# Altium schematic symbol library Amplifier_Operational.SchLib: 414 symbols (part 3 of 5)
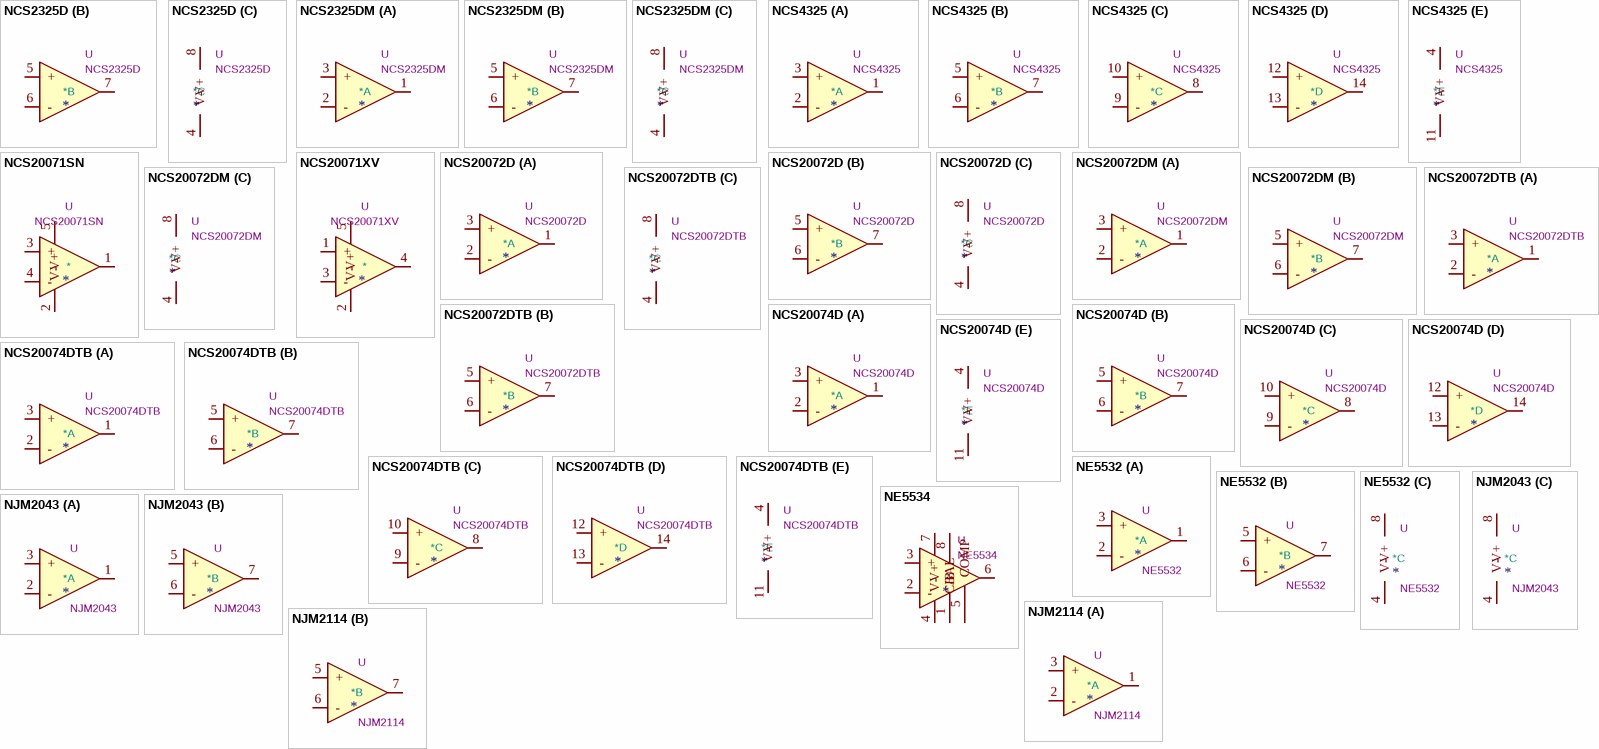
[diagram p25: symbols NCS2325D to NJM2114]

## NCS20071SN
designator *  value NCS20071SN  Reference: U
Single, 2.8V/µs, Rail-to-Rail Output, TSOP-5; ki_keywords: OpAmp Rail-to-rail Output Single vfa; ki_fp_filters: TSOP*1.65x3.05mm*P0.95mm*; Footprint: Package_SO:TSOP-5_1.65x3.05mm_P0.95mm; Datasheet: https://www.onsemi.com/pub/Collateral/NCS20071-D.PDF; Description_: Single, 2.8V/µs, Rail-to-Rail Output, TSOP-5
pins: 1, 2 V-, 3 +, 4 -, 5 V+

## NCS20071XV
designator *  value NCS20071XV  Reference: U
Single, 2.8V/µs, Rail-to-Rail Output, SOT-553; ki_keywords: OpAmp Rail-to-rail Output Single vfa; ki_fp_filters: SOT?553*; Footprint: Package_TO_SOT_SMD:SOT-553; Datasheet: https://www.onsemi.com/pub/Collateral/NCS20071-D.PDF; Description_: Single, 2.8V/µs, Rail-to-Rail Output, SOT-553
pins: 1 +, 2 V-, 3 -, 4, 5 V+

## NCS20072D
designator *  value NCS20072D  Reference: U
Dual, 2.8V/µs, Rail-to-Rail Output, SOIC-8; ki_keywords: dual rail-to-rail output opamp vfa; ki_fp_filters: SOIC*3.9x4.9mm*P1.27mm*; Footprint: Package_SO:SOIC-8_3.9x4.9mm_P1.27mm; Datasheet: https://www.onsemi.com/pub/Collateral/NCS20071-D.PDF; Description_: Dual, 2.8V/µs, Rail-to-Rail Output, SOIC-8
part A pins: 1, 2 -, 3 +
part B pins: 5 +, 6 -, 7
part C pins: 4 V-, 8 V+

## NCS20072DM
designator *  value NCS20072DM  Reference: U
Dual, 2.8V/µs, Rail-to-Rail Output, MSOP-8; ki_keywords: dual rail-to-rail output opamp vfa; ki_fp_filters: MSOP*3x3mm*P0.65mm*; Footprint: Package_SO:MSOP-8_3x3mm_P0.65mm; Datasheet: https://www.onsemi.com/pub/Collateral/NCS20071-D.PDF; Description_: Dual, 2.8V/µs, Rail-to-Rail Output, MSOP-8
part A pins: 1, 2 -, 3 +
part B pins: 5 +, 6 -, 7
part C pins: 4 V-, 8 V+

## NCS20072DTB
designator *  value NCS20072DTB  Reference: U
Dual, 2.8V/µs, Rail-to-Rail Output, TSSOP-8; ki_keywords: dual rail-to-rail output opamp vfa; ki_fp_filters: TSSOP*4.4x3mm*P0.65mm*; Footprint: Package_SO:TSSOP-8_4.4x3mm_P0.65mm; Datasheet: https://www.onsemi.com/pub/Collateral/NCS20071-D.PDF; Description_: Dual, 2.8V/µs, Rail-to-Rail Output, TSSOP-8
part A pins: 1, 2 -, 3 +
part B pins: 5 +, 6 -, 7
part C pins: 4 V-, 8 V+

## NCS20074D
designator *  value NCS20074D  Reference: U
Quad, 2.8V/µs, Rail-to-Rail Output, SOIC-14; ki_keywords: quad rail-to-rail output opamp vfa; ki_fp_filters: SOIC*3.9x8.7mm*P1.27mm*; Footprint: Package_SO:SOIC-14_3.9x8.7mm_P1.27mm; Datasheet: https://www.onsemi.com/pub/Collateral/NCS20071-D.PDF; Description_: Quad, 2.8V/µs, Rail-to-Rail Output, SOIC-14
part A pins: 1, 2 -, 3 +
part B pins: 5 +, 6 -, 7
part C pins: 8, 9 -, 10 +
part D pins: 12 +, 13 -, 14
part E pins: 4 V+, 11 V-

## NCS20074DTB
designator *  value NCS20074DTB  Reference: U
Quad, 2.8V/µs, Rail-to-Rail Output, TSSOP-14; ki_keywords: quad rail-to-rail output opamp vfa; ki_fp_filters: TSSOP*4.4x5mm*P0.65mm*; Footprint: Package_SO:TSSOP-14_4.4x5mm_P0.65mm; Datasheet: https://www.onsemi.com/pub/Collateral/NCS20071-D.PDF; Description_: Quad, 2.8V/µs, Rail-to-Rail Output, TSSOP-14
part A pins: 1, 2 -, 3 +
part B pins: 5 +, 6 -, 7
part C pins: 8, 9 -, 10 +
part D pins: 12 +, 13 -, 14
part E pins: 4 V+, 11 V-

## NE5532
designator *  value NE5532  Reference: U
Dual Low-Noise Operational Amplifiers, DIP-8/SOIC-8; ki_keywords: dual opamp; ki_fp_filters: SOIC*3.9x4.9mm*P1.27mm* DIP*W7.62mm* TO*99* OnSemi*Micro8* TSSOP*3x3mm*P0.65mm* TSSOP*4.4x3mm*P0.65mm* MSOP*3x3mm*P0.65mm* SSOP*3.9x4.9mm*P0.635mm* LFCSP*2x2mm*P0.5mm* *SIP* SOIC*5.3x6.2mm*P1.27mm*; Datasheet: http://www.ti.com/lit/ds/symlink/ne5532.pdf; Description_: Dual Low-Noise Operational Amplifiers, DIP-8/SOIC-8
part A pins: 1, 2 -, 3 +
part B pins: 5 +, 6 -, 7
part C pins: 4 V-, 8 V+

## NE5534
designator *  value NE5534  Reference: U
Single Low-Noise Operational Amplifiers, DIP-8/SOIC-8; ki_keywords: single opamp; ki_fp_filters: DIP*W7.62mm* SOIC*3.9x4.9mm*P1.27mm* TO?5*; Datasheet: http://www.ti.com/lit/ds/symlink/ne5534.pdf; Description_: Single Low-Noise Operational Amplifiers, DIP-8/SOIC-8
pins: 1 BAL, 2 -, 3 +, 4 V-, 5 COMP, 6, 7 V+, 8 C/B

## NJM2043
designator *  value NJM2043  Reference: U
Dual Low Noise Pre-Amplifier, DIP-8/DMP-8/SIP-8; ki_keywords: dual opamp; ki_fp_filters: SOIC*3.9x4.9mm*P1.27mm* DIP*W7.62mm* TO*99* OnSemi*Micro8* TSSOP*3x3mm*P0.65mm* TSSOP*4.4x3mm*P0.65mm* MSOP*3x3mm*P0.65mm* SSOP*3.9x4.9mm*P0.635mm* LFCSP*2x2mm*P0.5mm* *SIP* SOIC*5.3x6.2mm*P1.27mm*; Datasheet: http://www.njr.com/semicon/PDF/NJM2043_E.pdf; Description_: Dual Low Noise Pre-Amplifier, DIP-8/DMP-8/SIP-8
part A pins: 1, 2 -, 3 +
part B pins: 5 +, 6 -, 7
part C pins: 4 V-, 8 V+

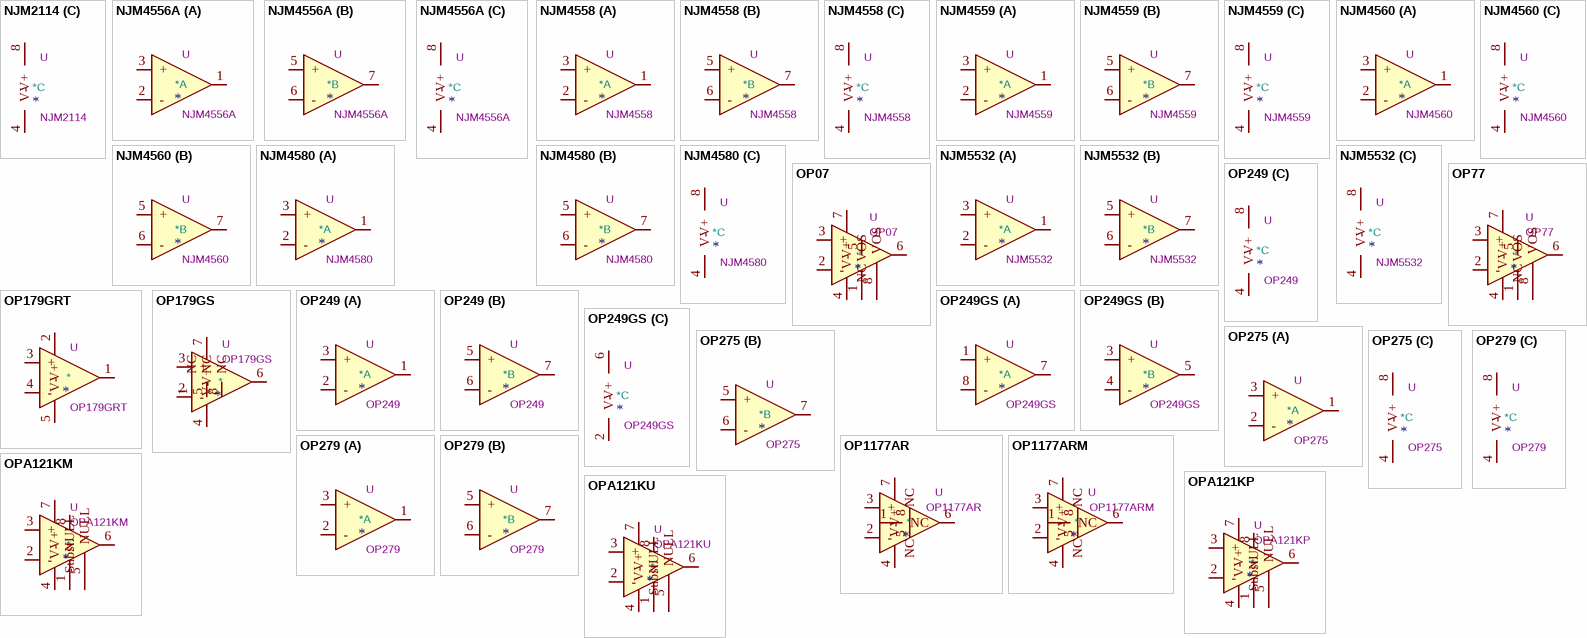
[diagram p12: symbols NJM2114 to OPA121KU]

## NJM2114
designator *  value NJM2114  Reference: U
Dual High Performance Low Noise Operational Amplifier, DIP-8/DMP-8/SIP-8; ki_keywords: dual opamp; ki_fp_filters: SOIC*3.9x4.9mm*P1.27mm* DIP*W7.62mm* TO*99* OnSemi*Micro8* TSSOP*3x3mm*P0.65mm* TSSOP*4.4x3mm*P0.65mm* MSOP*3x3mm*P0.65mm* SSOP*3.9x4.9mm*P0.635mm* LFCSP*2x2mm*P0.5mm* *SIP* SOIC*5.3x6.2mm*P1.27mm*; Datasheet: http://www.njr.com/semicon/PDF/NJM2114_E.pdf; Description_: Dual High Performance Low Noise Operational Amplifier, DIP-8/DMP-8/SIP-8
part A pins: 1, 2 -, 3 +
part B pins: 5 +, 6 -, 7
part C pins: 4 V-, 8 V+

## NJM4556A
designator *  value NJM4556A  Reference: U
Dual High Current Operational Amplifier, DIP-8/DMP-8/SIP-8/SSOP-8; ki_keywords: dual opamp; ki_fp_filters: SOIC*3.9x4.9mm*P1.27mm* DIP*W7.62mm* TO*99* OnSemi*Micro8* TSSOP*3x3mm*P0.65mm* TSSOP*4.4x3mm*P0.65mm* MSOP*3x3mm*P0.65mm* SSOP*3.9x4.9mm*P0.635mm* LFCSP*2x2mm*P0.5mm* *SIP* SOIC*5.3x6.2mm*P1.27mm*; Datasheet: http://www.njr.com/semicon/PDF/NJM4556A_E.pdf; Description_: Dual High Current Operational Amplifier, DIP-8/DMP-8/SIP-8/SSOP-8
part A pins: 1, 2 -, 3 +
part B pins: 5 +, 6 -, 7
part C pins: 4 V-, 8 V+

## NJM4558
designator *  value NJM4558  Reference: U
Dual Operational Amplifier, DIP-8/DMP-8/SIP-8/SOP-8/SSOP-8; ki_keywords: dual opamp; ki_fp_filters: SOIC*3.9x4.9mm*P1.27mm* DIP*W7.62mm* TO*99* OnSemi*Micro8* TSSOP*3x3mm*P0.65mm* TSSOP*4.4x3mm*P0.65mm* MSOP*3x3mm*P0.65mm* SSOP*3.9x4.9mm*P0.635mm* LFCSP*2x2mm*P0.5mm* *SIP* SOIC*5.3x6.2mm*P1.27mm*; Datasheet: http://www.njr.com/semicon/PDF/NJM4558_NJM4559_E.pdf; Description_: Dual Operational Amplifier, DIP-8/DMP-8/SIP-8/SOP-8/SSOP-8
part A pins: 1, 2 -, 3 +
part B pins: 5 +, 6 -, 7
part C pins: 4 V-, 8 V+

## NJM4559
designator *  value NJM4559  Reference: U
Dual Operational Amplifier, DIP-8/DMP-8/SIP-8/SOP-8/SSOP-8; ki_keywords: dual opamp; ki_fp_filters: SOIC*3.9x4.9mm*P1.27mm* DIP*W7.62mm* TO*99* OnSemi*Micro8* TSSOP*3x3mm*P0.65mm* TSSOP*4.4x3mm*P0.65mm* MSOP*3x3mm*P0.65mm* SSOP*3.9x4.9mm*P0.635mm* LFCSP*2x2mm*P0.5mm* *SIP* SOIC*5.3x6.2mm*P1.27mm*; Datasheet: http://www.njr.com/semicon/PDF/NJM4558_NJM4559_E.pdf; Description_: Dual Operational Amplifier, DIP-8/DMP-8/SIP-8/SOP-8/SSOP-8
part A pins: 1, 2 -, 3 +
part B pins: 5 +, 6 -, 7
part C pins: 4 V-, 8 V+

## NJM4560
designator *  value NJM4560  Reference: U
Dual Operational Amplifier, DIP-8/DMP-8/SIP-8/SOP-8; ki_keywords: dual opamp; ki_fp_filters: SOIC*3.9x4.9mm*P1.27mm* DIP*W7.62mm* TO*99* OnSemi*Micro8* TSSOP*3x3mm*P0.65mm* TSSOP*4.4x3mm*P0.65mm* MSOP*3x3mm*P0.65mm* SSOP*3.9x4.9mm*P0.635mm* LFCSP*2x2mm*P0.5mm* *SIP* SOIC*5.3x6.2mm*P1.27mm*; Datasheet: http://www.njr.com/semicon/PDF/NJM4560_E.pdf; Description_: Dual Operational Amplifier, DIP-8/DMP-8/SIP-8/SOP-8
part A pins: 1, 2 -, 3 +
part B pins: 5 +, 6 -, 7
part C pins: 4 V-, 8 V+

## NJM4580
designator *  value NJM4580  Reference: U
Dual Operational Amplifier, DIP-8/DMP-8/SIP-8/MSOP-8/SOP-8/SSOP-8; ki_keywords: dual opamp; ki_fp_filters: SOIC*3.9x4.9mm*P1.27mm* DIP*W7.62mm* TO*99* OnSemi*Micro8* TSSOP*3x3mm*P0.65mm* TSSOP*4.4x3mm*P0.65mm* MSOP*3x3mm*P0.65mm* SSOP*3.9x4.9mm*P0.635mm* LFCSP*2x2mm*P0.5mm* *SIP* SOIC*5.3x6.2mm*P1.27mm*; Datasheet: http://www.njr.com/semicon/PDF/NJM4580_E.pdf; Description_: Dual Operational Amplifier, DIP-8/DMP-8/SIP-8/MSOP-8/SOP-8/SSOP-8
part A pins: 1, 2 -, 3 +
part B pins: 5 +, 6 -, 7
part C pins: 4 V-, 8 V+

## NJM5532
designator *  value NJM5532  Reference: U
Dual Low-Noise Operational Amplifier, DIP-8/DMP-8/SIP-8; ki_keywords: dual opamp; ki_fp_filters: SOIC*3.9x4.9mm*P1.27mm* DIP*W7.62mm* TO*99* OnSemi*Micro8* TSSOP*3x3mm*P0.65mm* TSSOP*4.4x3mm*P0.65mm* MSOP*3x3mm*P0.65mm* SSOP*3.9x4.9mm*P0.635mm* LFCSP*2x2mm*P0.5mm* *SIP* SOIC*5.3x6.2mm*P1.27mm*; Datasheet: http://www.njr.com/semicon/PDF/NJM5532_E.pdf; Description_: Dual Low-Noise Operational Amplifier, DIP-8/DMP-8/SIP-8
part A pins: 1, 2 -, 3 +
part B pins: 5 +, 6 -, 7
part C pins: 4 V-, 8 V+

## OP07
designator *  value OP07  Reference: U
Single Ultra-Low Offset Voltage Operational Amplifier, DIP-8/SOIC-8; ki_keywords: single opamp; ki_fp_filters: DIP*W7.62mm* SOIC*3.9x4.9mm*P1.27mm* TO*99*; Datasheet: https://www.analog.com/media/en/technical-documentation/data-sheets/OP07.pdf; Description_: Single Ultra-Low Offset Voltage Operational Amplifier, DIP-8/SOIC-8
pins: 1 VOS, 2 -, 3 +, 4 V-, 5 NC, 6, 7 V+, 8 VOS

## OP77
designator *  value OP77  Reference: U
Next Generation OP07 Ultralow Offset Voltage Operational Amplifier, DIP-8/TO-99-8; ki_keywords: single opamp; ki_fp_filters: DIP*W7.62mm* SOIC*3.9x4.9mm*P1.27mm* TO*99*; Datasheet: https://www.analog.com/media/en/technical-documentation/data-sheets/OP77.pdf; Description_: Next Generation OP07 Ultralow Offset Voltage Operational Amplifier, DIP-8/TO-99-8
pins: 1 VOS, 2 -, 3 +, 4 V-, 5 NC, 6, 7 V+, 8 VOS

## OP179GRT
designator *  value OP179GRT  Reference: U
Single Rail-to-Rail High Output Current Operational Amplifiers, SOT-23-5; ki_keywords: single opamp; ki_fp_filters: SOT?23*; Footprint: Package_TO_SOT_SMD:SOT-23-5; Datasheet: https://www.analog.com/media/en/technical-documentation/data-sheets/OP179_279.pdf; Description_: Single Rail-to-Rail High Output Current Operational Amplifiers, SOT-23-5
pins: 1, 2 V+, 3 +, 4 -, 5 V-

## OP179GS
designator *  value OP179GS  Reference: U
Single Rail-to-Rail High Output Current Operational Amplifiers, SOIC-8; ki_keywords: single opamp; ki_fp_filters: SOIC*3.9x4.9mm*P1.27mm*; Footprint: Package_SO:SOIC-8_3.9x4.9mm_P1.27mm; Datasheet: https://www.analog.com/media/en/technical-documentation/data-sheets/OP179_279.pdf; Description_: Single Rail-to-Rail High Output Current Operational Amplifiers, SOIC-8
pins: 1 NC, 2 -, 3 +, 4 V-, 5 NC, 6, 7 V+, 8 NC

## OP249
designator *  value OP249  Reference: U
Precision JFET, High Speed, Dual Operational Amplifier, DIP-8; ki_keywords: dual opamp; ki_fp_filters: SOIC*3.9x4.9mm*P1.27mm* DIP*W7.62mm* TO*99* OnSemi*Micro8* TSSOP*3x3mm*P0.65mm* TSSOP*4.4x3mm*P0.65mm* MSOP*3x3mm*P0.65mm* SSOP*3.9x4.9mm*P0.635mm* LFCSP*2x2mm*P0.5mm* *SIP* SOIC*5.3x6.2mm*P1.27mm*; Datasheet: https://www.analog.com/media/en/technical-documentation/data-sheets/OP249.pdf; Description_: Precision JFET, High Speed, Dual Operational Amplifier, DIP-8
part A pins: 1, 2 -, 3 +
part B pins: 5 +, 6 -, 7
part C pins: 4 V-, 8 V+

## OP249GS
designator *  value OP249GS  Reference: U
Precision JFET, High Speed, Dual Operational Amplifier, SOIC-8; ki_keywords: dual opamp; ki_fp_filters: SOIC*3.9x4.9mm*P1.27mm*; Footprint: Package_SO:SOIC-8_3.9x4.9mm_P1.27mm; Datasheet: https://www.analog.com/media/en/technical-documentation/data-sheets/OP249.pdf; Description_: Precision JFET, High Speed, Dual Operational Amplifier, SOIC-8
part A pins: 1 +, 7, 8 -
part B pins: 3 +, 4 -, 5
part C pins: 2 V-, 6 V+

## OP275
designator *  value OP275  Reference: U
Dual Bipolar/JFET, Audio Operational Amplifier, DIP-8/SOIC-8; ki_keywords: dual opamp; ki_fp_filters: SOIC*3.9x4.9mm*P1.27mm* DIP*W7.62mm* TO*99* OnSemi*Micro8* TSSOP*3x3mm*P0.65mm* TSSOP*4.4x3mm*P0.65mm* MSOP*3x3mm*P0.65mm* SSOP*3.9x4.9mm*P0.635mm* LFCSP*2x2mm*P0.5mm* *SIP* SOIC*5.3x6.2mm*P1.27mm*; Datasheet: https://www.analog.com/media/en/technical-documentation/data-sheets/OP275.pdf; Description_: Dual Bipolar/JFET, Audio Operational Amplifier, DIP-8/SOIC-8
part A pins: 1, 2 -, 3 +
part B pins: 5 +, 6 -, 7
part C pins: 4 V-, 8 V+

## OP279
designator *  value OP279  Reference: U
Dual Rail-to-Rail High Output Current Operational Amplifiers, SOIC-8/TSSOP-8; ki_keywords: dual opamp; ki_fp_filters: SOIC*3.9x4.9mm*P1.27mm* TSSOP*4.4x3mm*P0.65mm*; Datasheet: https://www.analog.com/media/en/technical-documentation/data-sheets/OP179_279.pdf; Description_: Dual Rail-to-Rail High Output Current Operational Amplifiers, SOIC-8/TSSOP-8
part A pins: 1, 2 -, 3 +
part B pins: 5 +, 6 -, 7
part C pins: 4 V-, 8 V+

## OP1177AR
designator *  value OP1177AR  Reference: U
Precision Low Noise, Low Input Bias Current Operational Amplifier, SOIC-8; ki_keywords: single operational amplifier; ki_fp_filters: SOIC*3.9x4.9mm*P1.27mm*; Footprint: Package_SO:SOIC-8_3.9x4.9mm_P1.27mm; Datasheet: https://www.analog.com/media/en/technical-documentation/data-sheets/OP1177_2177_4177.pdf; Description_: Precision Low Noise, Low Input Bias Current Operational Amplifier, SOIC-8
pins: 1 NC, 2 -, 3 +, 4 V-, 5 NC, 6, 7 V+, 8 NC

## OP1177ARM
designator *  value OP1177ARM  Reference: U
Precision Low Noise, Low Input Bias Current Operational Amplifier, MSOP-8; ki_keywords: single operational amplifier; ki_fp_filters: MSOP*3x3mm*P0.65mm*; Footprint: Package_SO:MSOP-8_3x3mm_P0.65mm; Datasheet: https://www.analog.com/media/en/technical-documentation/data-sheets/OP1177_2177_4177.pdf; Description_: Precision Low Noise, Low Input Bias Current Operational Amplifier, MSOP-8
pins: 1 NC, 2 -, 3 +, 4 V-, 5 NC, 6, 7 V+, 8 NC

## OPA121KM
designator *  value OPA121KM  Reference: U
Operational Amplifier, TO-99; ki_keywords: single opamp BURR-BROWN Texas Instruments; ki_fp_filters: *TO*99*; Footprint: Package_TO_SOT_THT:TO-99-8; Datasheet: https://www.alldatasheet.com/datasheet-pdf/pdf/56725/BURR-BROWN/OPA121.html; Description_: Operational Amplifier, TO-99
pins: 1 NULL, 2 -, 3 +, 4 V-, 5 NULL, 6, 7 V+, 8 Subst.

## OPA121KP
designator *  value OPA121KP  Reference: U
Operational Amplifier, DIP-8; ki_keywords: single opamp BURR-BROWN Texas Instruments; ki_fp_filters: DIP*W7.62mm*; Footprint: Package_DIP:DIP-8_W7.62mm; Datasheet: https://www.alldatasheet.com/datasheet-pdf/pdf/56725/BURR-BROWN/OPA121.html; Description_: Operational Amplifier, DIP-8
pins: 1 NULL, 2 -, 3 +, 4 V-, 5 NULL, 6, 7 V+, 8 Subst.

## OPA121KU
designator *  value OPA121KU  Reference: U
Operational Amplifier, SOIC-8; ki_keywords: single opamp BURR-BROWN Texas Instruments; ki_fp_filters: SOIC*3.9x4.9mm*P1.27mm*; Footprint: Package_SO:SOIC-8_3.9x4.9mm_P1.27mm; Datasheet: https://www.alldatasheet.com/datasheet-pdf/pdf/56725/BURR-BROWN/OPA121.html; Description_: Operational Amplifier, SOIC-8
pins: 1 NULL, 2 -, 3 +, 4 V-, 5 NULL, 6, 7 V+, 8 Subst.

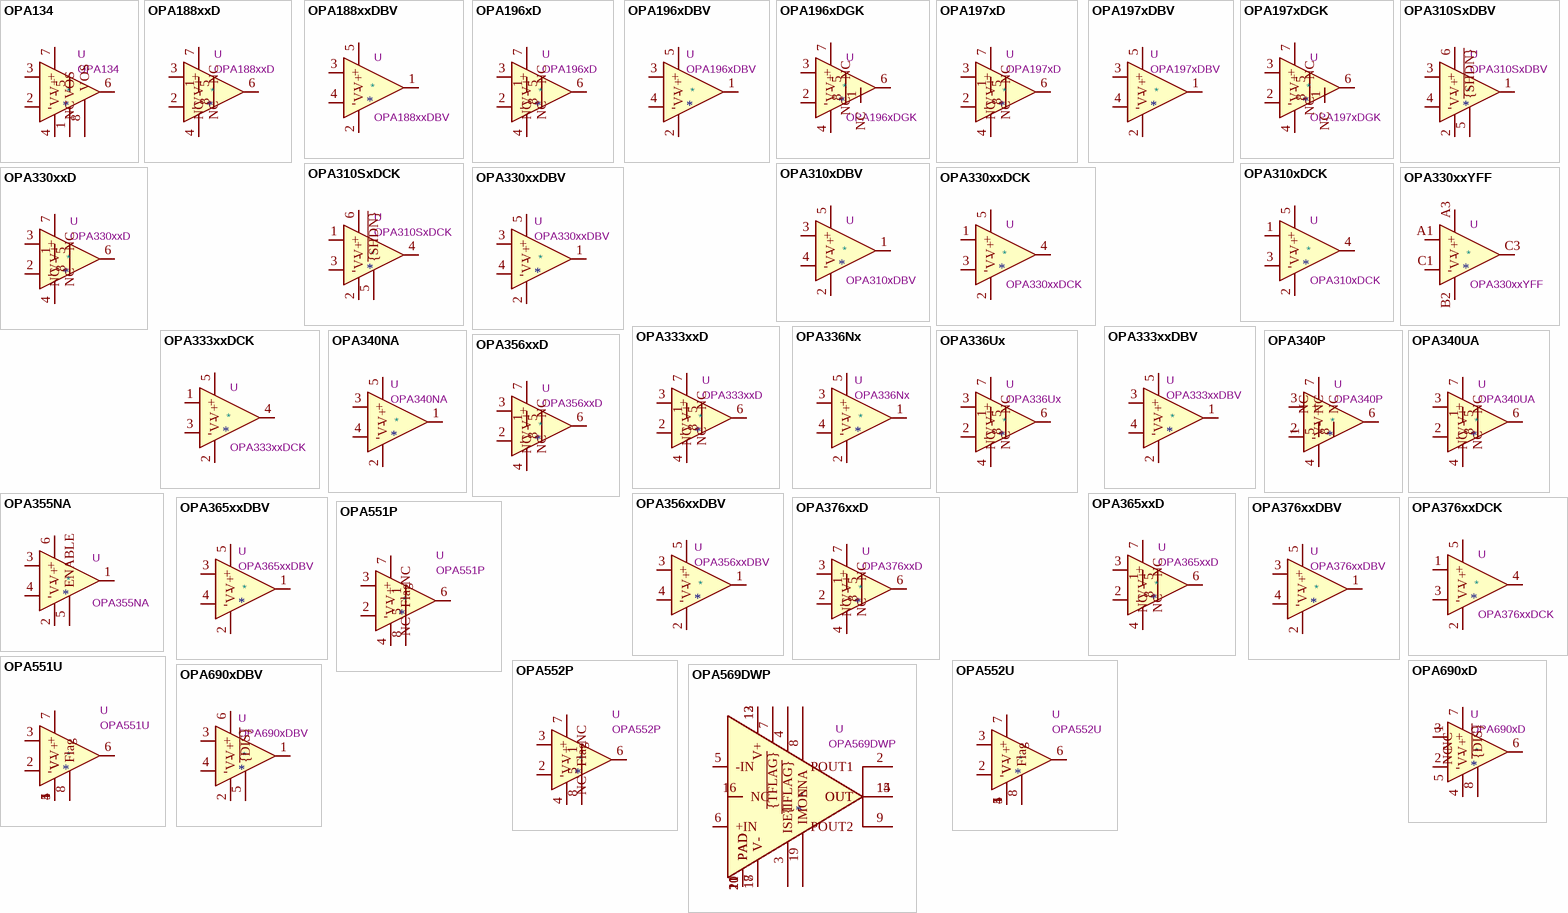
[diagram p13: symbols OPA134 to OPA690xDBV]

## OPA134
designator *  value OPA134  Reference: U
Single SoundPlus High Performance Audio Operational Amplifiers, DIP-8/SOIC-8; ki_keywords: single opamp; ki_fp_filters: DIP*W7.62mm* SOIC*3.9x4.9mm*P1.27mm* TO*99*; Datasheet: http://www.ti.com/lit/ds/symlink/opa134.pdf; Description_: Single SoundPlus High Performance Audio Operational Amplifiers, DIP-8/SOIC-8
pins: 1 VOS, 2 -, 3 +, 4 V-, 5 NC, 6, 7 V+, 8 VOS

## OPA188xxD
designator *  value OPA188xxD  Reference: U
Precision, Low-Noise, Rail-to-Rail Output, 36-V, Zero-Drift Operational Amplifier, SOIC-8; ki_keywords: single opamp zero-drift; ki_fp_filters: SOIC*3.9x4.9mm*P1.27mm*; Footprint: Package_SO:SOIC-8_3.9x4.9mm_P1.27mm; Datasheet: http://www.ti.com/lit/ds/symlink/opa188.pdf; Description_: Precision, Low-Noise, Rail-to-Rail Output, 36-V, Zero-Drift Operational Amplifier, SOIC-8
pins: 1 NC, 2 -, 3 +, 4 V-, 5 NC, 6, 7 V+, 8 NC

## OPA188xxDBV
designator *  value OPA188xxDBV  Reference: U
Zero-Drift, Precision, Low-Noise, Rail-to-Rail Output, 36-V Operational Amplifier, TSOT-23-5; ki_keywords: single opamp zero-drift; ki_fp_filters: TSOT*23*; Footprint: Package_TO_SOT_SMD:TSOT-23-5; Datasheet: http://www.ti.com/lit/ds/symlink/opa188.pdf; Description_: Zero-Drift, Precision, Low-Noise, Rail-to-Rail Output, 36-V Operational Amplifier, TSOT-23-5
pins: 1, 2 V-, 3 +, 4 -, 5 V+

## OPA196xD
designator *  value OPA196xD  Reference: U
Sing, Low-Power, Low Offset Voltage, Rail-to-Rail Operational Amplifier, SOIC-8; ki_keywords: single opamp; ki_fp_filters: SOIC*3.9x4.9mm*P1.27mm*; Footprint: Package_SO:SOIC-8_3.9x4.9mm_P1.27mm; Datasheet: http://www.ti.com/lit/ds/symlink/opa4196.pdf; Description_: Sing, Low-Power, Low Offset Voltage, Rail-to-Rail Operational Amplifier, SOIC-8
pins: 1 NC, 2 -, 3 +, 4 V-, 5 NC, 6, 7 V+, 8 NC

## OPA196xDBV
designator *  value OPA196xDBV  Reference: U
Single, Low-Power, Low Offset Voltage, Rail-to-Rail Operational Amplifier, SOT-23-5; ki_keywords: single opamp; ki_fp_filters: SOT?23*; Footprint: Package_TO_SOT_SMD:SOT-23-5; Datasheet: http://www.ti.com/lit/ds/symlink/opa4196.pdf; Description_: Single, Low-Power, Low Offset Voltage, Rail-to-Rail Operational Amplifier, SOT-23-5
pins: 1, 2 V-, 3 +, 4 -, 5 V+

## OPA196xDGK
designator *  value OPA196xDGK  Reference: U
Single, Low-Power, Low Offset Voltage, Rail-to-Rail Operational Amplifier, VSSOP-8; ki_keywords: single opamp rtor; ki_fp_filters: VSSOP*3x3mm*P0.65mm*; Footprint: Package_SO:VSSOP-8_3x3mm_P0.65mm; Datasheet: http://www.ti.com/lit/ds/symlink/opa4196.pdf; Description_: Single, Low-Power, Low Offset Voltage, Rail-to-Rail Operational Amplifier, VSSOP-8
pins: 1 NC, 2 -, 3 +, 4 V-, 5 NC, 6, 7 V+, 8 NC

## OPA197xD
designator *  value OPA197xD  Reference: U
Single 36V, Precision, Rail-to-Rail Input/Output, Low Offset Voltage, Operational Amplifier, SOIC-8; ki_keywords: single opamp rtor; ki_fp_filters: SOIC*3.9x4.9mm*P1.27mm*; Footprint: Package_SO:SOIC-8_3.9x4.9mm_P1.27mm; Datasheet: http://www.ti.com/lit/ds/symlink/opa197.pdf; Description_: Single 36V, Precision, Rail-to-Rail Input/Output, Low Offset Voltage, Operational Amplifier, SOIC-8
pins: 1 NC, 2 -, 3 +, 4 V-, 5 NC, 6, 7 V+, 8 NC

## OPA197xDBV
designator *  value OPA197xDBV  Reference: U
Single 36V, Precision, Rail-to-Rail Input/Output, Low Offset Voltage, Operational Amplifier, SOT-23; ki_keywords: single opamp rtor; ki_fp_filters: SOT?23*; Footprint: Package_TO_SOT_SMD:SOT-23-5; Datasheet: http://www.ti.com/lit/ds/symlink/opa197.pdf; Description_: Single 36V, Precision, Rail-to-Rail Input/Output, Low Offset Voltage, Operational Amplifier, SOT-23
pins: 1, 2 V-, 3 +, 4 -, 5 V+

## OPA197xDGK
designator *  value OPA197xDGK  Reference: U
Single 36V, Precision, Rail-to-Rail Input/Output, Low Offset Voltage, Operational Amplifier, VSSOP-8; ki_keywords: single opamp rtor; ki_fp_filters: VSSOP*3x3mm*P0.65mm*; Footprint: Package_SO:VSSOP-8_3x3mm_P0.65mm; Datasheet: http://www.ti.com/lit/ds/symlink/opa197.pdf; Description_: Single 36V, Precision, Rail-to-Rail Input/Output, Low Offset Voltage, Operational Amplifier, VSSOP-8
pins: 1 NC, 2 -, 3 +, 4 V-, 5 NC, 6, 7 V+, 8 NC

## OPA310SxDBV
designator *  value OPA310SxDBV  Reference: U
Single Rail-to-Rail Input/Output Operational Amplifier with Shutdown, 1.5..5.5V supply, 3MHz GBW, 250uV offset voltage, 150mA output current, SOT-23-6; ki_keywords: single opamp; ki_fp_filters: SOT?23*; Footprint: Package_TO_SOT_SMD:SOT-23-6; Datasheet: https://www.ti.com/lit/ds/symlink/opa310.pdf; Description_: Single Rail-to-Rail Input/Output Operational Amplifier with Shutdown, 1.5..5.5V supply, 3MHz GBW, 250uV offset voltage, 150mA output current, SOT-23-6
pins: 1, 2 V-, 3 +, 4 -, 5 ~{{SHDN}}, 6 V+

## OPA310SxDCK
designator *  value OPA310SxDCK  Reference: U
Single Rail-to-Rail Input/Output Operational Amplifier with Shutdown, 1.5..5.5V supply, 3MHz GBW, 250uV offset voltage, 150mA output current,  SC-70-6; ki_keywords: single opamp; ki_fp_filters: Texas*R*PDSO*G6*; Footprint: Package_TO_SOT_SMD:Texas_R-PDSO-G6; Datasheet: https://www.ti.com/lit/ds/symlink/opa310.pdf; Description_: Single Rail-to-Rail Input/Output Operational Amplifier with Shutdown, 1.5..5.5V supply, 3MHz GBW, 250uV offset voltage, 150mA output current,  SC-70-6
pins: 1 +, 2 V-, 3 -, 4, 5 ~{{SHDN}}, 6 V+

## OPA310xDBV
designator *  value OPA310xDBV  Reference: U
High output current, Rail-to-Rail Input/Output, 3MHz GBW, Operational Amplifiers, integrated RFI/EMI filter, 1.5V to 5.5V supply, SOT-23-5; ki_keywords: single opamp rrio; ki_fp_filters: SOT?23*; Footprint: Package_TO_SOT_SMD:SOT-23-5; Datasheet: https://www.ti.com/lit/ds/symlink/opa2310.pdf; Description_: High output current, Rail-to-Rail Input/Output, 3MHz GBW, Operational Amplifiers, integrated RFI/EMI filter, 1.5V to 5.5V supply, SOT-23-5
pins: 1, 2 V-, 3 +, 4 -, 5 V+

## OPA310xDCK
designator *  value OPA310xDCK  Reference: U
High output current, Rail-to-Rail Input/Output, 3MHz GBW, Operational Amplifiers, integrated RFI/EMI filter, 1.5V to 5.5V supply, SC-70-5; ki_keywords: single opamp rrio; ki_fp_filters: *SC*70*; Footprint: Package_TO_SOT_SMD:SOT-353_SC-70-5; Datasheet: https://www.ti.com/lit/ds/symlink/opa2310.pdf; Description_: High output current, Rail-to-Rail Input/Output, 3MHz GBW, Operational Amplifiers, integrated RFI/EMI filter, 1.5V to 5.5V supply, SC-70-5
pins: 1 +, 2 V-, 3 -, 4, 5 V+

## OPA330xxD
designator *  value OPA330xxD  Reference: U
50μV V OS, 0.25μV/°C, 35μA CMOS OPERATIONAL AMPLIFIERS, Zerø-Drift Series, SOIC; ki_keywords: single opamp; ki_fp_filters: SOIC*3.9x4.9mm*P1.27mm*; Footprint: Package_SO:SOIC-8_3.9x4.9mm_P1.27mm; Datasheet: http://www.ti.com/lit/ds/symlink/opa330.pdf; Description_: 50μV V OS, 0.25μV/°C, 35μA CMOS OPERATIONAL AMPLIFIERS, Zerø-Drift Series, SOIC
pins: 1 NC, 2 -, 3 +, 4 V-, 5 NC, 6, 7 V+, 8 NC

## OPA330xxDBV
designator *  value OPA330xxDBV  Reference: U
50μV V OS, 0.25μV/°C, 35μA CMOS OPERATIONAL AMPLIFIERS, Zerø-Drift Series, SOT; ki_keywords: single opamp; ki_fp_filters: SOT?23*; Footprint: Package_TO_SOT_SMD:SOT-23-5; Datasheet: http://www.ti.com/lit/ds/symlink/opa330.pdf; Description_: 50μV V OS, 0.25μV/°C, 35μA CMOS OPERATIONAL AMPLIFIERS, Zerø-Drift Series, SOT
pins: 1, 2 V-, 3 +, 4 -, 5 V+

## OPA330xxDCK
designator *  value OPA330xxDCK  Reference: U
50μV V OS, 0.25μV/°C, 35μA CMOS OPERATIONAL AMPLIFIERS, Zerø-Drift Series, SC70; ki_keywords: single opamp; ki_fp_filters: SOT?23* *SC*70*; Datasheet: http://www.ti.com/lit/ds/symlink/opa330.pdf; Description_: 50μV V OS, 0.25μV/°C, 35μA CMOS OPERATIONAL AMPLIFIERS, Zerø-Drift Series, SC70
pins: 1 +, 2 V-, 3 -, 4, 5 V+

## OPA330xxYFF
designator *  value OPA330xxYFF  Reference: U
50μV V OS, 0.25μV/°C, 35μA CMOS OPERATIONAL AMPLIFIERS, Zerø-Drift Series, DSBGA; ki_keywords: single opamp; ki_fp_filters: Texas*DSBGA*0.822x1.116mm*2x1x2*P0.4mm*; Footprint: Package_BGA:Texas_DSBGA-5_0.822x1.116mm_Layout2x1x2_P0.4mm; Datasheet: http://www.ti.com/lit/ds/symlink/opa330.pdf; Description_: 50μV V OS, 0.25μV/°C, 35μA CMOS OPERATIONAL AMPLIFIERS, Zerø-Drift Series, DSBGA
pins: A1 +, A3 V+, B2 V-, C1 -, C3

## OPA333xxD
designator *  value OPA333xxD  Reference: U
Single 1.8V, microPower, CMOS Operational Amplifiers, Zero-Drift Series, SOIC-8; ki_keywords: single opamp; ki_fp_filters: SOIC*3.9x4.9mm*P1.27mm*; Footprint: Package_SO:SOIC-8_3.9x4.9mm_P1.27mm; Datasheet: http://www.ti.com/lit/ds/symlink/opa333.pdf; Description_: Single 1.8V, microPower, CMOS Operational Amplifiers, Zero-Drift Series, SOIC-8
pins: 1 NC, 2 -, 3 +, 4 V-, 5 NC, 6, 7 V+, 8 NC

## OPA333xxDBV
designator *  value OPA333xxDBV  Reference: U
Single 1.8V, microPower, CMOS Operational Amplifiers, Zero-Drift Series, SOT-23-5; ki_keywords: single opamp; ki_fp_filters: SOT?23*; Footprint: Package_TO_SOT_SMD:SOT-23-5; Datasheet: http://www.ti.com/lit/ds/symlink/opa333.pdf; Description_: Single 1.8V, microPower, CMOS Operational Amplifiers, Zero-Drift Series, SOT-23-5
pins: 1, 2 V-, 3 +, 4 -, 5 V+

## OPA333xxDCK
designator *  value OPA333xxDCK  Reference: U
Single 1.8V, microPower, CMOS Operational Amplifiers, Zero-Drift Series, SC-70-5; ki_keywords: single opamp; ki_fp_filters: *SC*70*; Footprint: Package_TO_SOT_SMD:SOT-353_SC-70-5; Datasheet: http://www.ti.com/lit/ds/symlink/opa333.pdf; Description_: Single 1.8V, microPower, CMOS Operational Amplifiers, Zero-Drift Series, SC-70-5
pins: 1 +, 2 V-, 3 -, 4, 5 V+

## OPA336Nx
designator *  value OPA336Nx  Reference: U
100 KHz, microPower CMOS, Op Amps, SOT-23-5; ki_keywords: single opamp rail; ki_fp_filters: SOT?23*; Footprint: Package_TO_SOT_SMD:SOT-23-5; Datasheet: https://www.ti.com/lit/ds/symlink/opa2336.pdf; Description_: 100 KHz, microPower CMOS, Op Amps, SOT-23-5
pins: 1, 2 V-, 3 +, 4 -, 5 V+

## OPA336Ux
designator *  value OPA336Ux  Reference: U
100 KHz, microPower CMOS, Op Amps, SO-8; ki_keywords: single opamp rail; ki_fp_filters: SO*3.9x4.9mm*P1.27mm*; Footprint: Package_SO:SO-8_3.9x4.9mm_P1.27mm; Datasheet: https://www.ti.com/lit/ds/symlink/opa2336.pdf; Description_: 100 KHz, microPower CMOS, Op Amps, SO-8
pins: 1 NC, 2 -, 3 +, 4 V-, 5 NC, 6, 7 V+, 8 NC

## OPA340NA
designator *  value OPA340NA  Reference: U
Single Single-Supply, Rail-to-Rail Operational Amplifier, MicroAmplifier Series, SOT-23-5; ki_keywords: single opamp; ki_fp_filters: SOT?23*; Footprint: Package_TO_SOT_SMD:SOT-23-5; Datasheet: http://www.ti.com/lit/ds/symlink/opa340.pdf; Description_: Single Single-Supply, Rail-to-Rail Operational Amplifier, MicroAmplifier Series, SOT-23-5
pins: 1, 2 V-, 3 +, 4 -, 5 V+

## OPA340P
designator *  value OPA340P  Reference: U
Single Single-Supply, Rail-to-Rail Operational Amplifier, MicroAmplifier Series, DIP-8; ki_keywords: single opamp; ki_fp_filters: DIP*W7.62mm*; Footprint: Package_DIP:DIP-8_W7.62mm; Datasheet: http://www.ti.com/lit/ds/symlink/opa340.pdf; Description_: Single Single-Supply, Rail-to-Rail Operational Amplifier, MicroAmplifier Series, DIP-8
pins: 1 NC, 2 -, 3 +, 4 V-, 5 NC, 6, 7 V+, 8 NC

## OPA340UA
designator *  value OPA340UA  Reference: U
Single Single-Supply, Rail-to-Rail Operational Amplifier, MicroAmplifier Series, SOIC-8; ki_keywords: single opamp; ki_fp_filters: SOIC*3.9x4.9mm*P1.27mm*; Footprint: Package_SO:SOIC-8_3.9x4.9mm_P1.27mm; Datasheet: http://www.ti.com/lit/ds/symlink/opa340.pdf; Description_: Single Single-Supply, Rail-to-Rail Operational Amplifier, MicroAmplifier Series, SOIC-8
pins: 1 NC, 2 -, 3 +, 4 V-, 5 NC, 6, 7 V+, 8 NC

## OPA355NA
designator *  value OPA355NA  Reference: U
200MHz, CMOS, Operational amplifier, with shutdown, SOT-23-6; ki_keywords: operational amplifier opamp shutdown high-speed; ki_fp_filters: SOT?23*; Footprint: Package_TO_SOT_SMD:SOT-23-6; Datasheet: http://www.ti.com/lit/ds/symlink/opa355.pdf; Description_: 200MHz, CMOS, Operational amplifier, with shutdown, SOT-23-6
pins: 1, 2 V-, 3 +, 4 -, 5 ENABLE, 6 V+

## OPA356xxD
designator *  value OPA356xxD  Reference: U
Single High Speed CMOS Operational Amplifier, SOIC-8; ki_keywords: single opamp; ki_fp_filters: SOIC*3.9x4.9mm*P1.27mm*; Footprint: Package_SO:SOIC-8_3.9x4.9mm_P1.27mm; Datasheet: http://www.ti.com/lit/ds/symlink/opa356.pdf; Description_: Single High Speed CMOS Operational Amplifier, SOIC-8
pins: 1 NC, 2 -, 3 +, 4 V-, 5 NC, 6, 7 V+, 8 NC

## OPA356xxDBV
designator *  value OPA356xxDBV  Reference: U
Single High Speed CMOS Operational Amplifier, SOT-23-5; ki_keywords: single opamp; ki_fp_filters: SOT?23*; Footprint: Package_TO_SOT_SMD:SOT-23-5; Datasheet: http://www.ti.com/lit/ds/symlink/opa356.pdf; Description_: Single High Speed CMOS Operational Amplifier, SOT-23-5
pins: 1, 2 V-, 3 +, 4 -, 5 V+

## OPA365xxD
designator *  value OPA365xxD  Reference: U
50-MHz, Zero-Crossover, Low-Distortion, High CMRR, RRI/O, Single-Supply, SOIC-8; ki_keywords: single opamp; ki_fp_filters: SOIC*3.9x4.9mm*P1.27mm*; Footprint: Package_SO:SOIC-8_3.9x4.9mm_P1.27mm; Datasheet: http://www.ti.com/lit/ds/symlink/opa365.pdf; Description_: 50-MHz, Zero-Crossover, Low-Distortion, High CMRR, RRI/O, Single-Supply, SOIC-8
pins: 1 NC, 2 -, 3 +, 4 V-, 5 NC, 6, 7 V+, 8 NC

## OPA365xxDBV
designator *  value OPA365xxDBV  Reference: U
50-MHz, Zero-Crossover, Low-Distortion, High CMRR, RRI/O, Single-Supply, SOT-23-5; ki_keywords: single opamp; ki_fp_filters: SOT?23*; Footprint: Package_TO_SOT_SMD:SOT-23-5; Datasheet: https://www.ti.com/lit/ds/symlink/opa365.pdf; Description_: 50-MHz, Zero-Crossover, Low-Distortion, High CMRR, RRI/O, Single-Supply, SOT-23-5
pins: 1, 2 V-, 3 +, 4 -, 5 V+

## OPA376xxD
designator *  value OPA376xxD  Reference: U
Single Low-Noise, Low Quiescent Current, Precision Operational Amplifier e-trim Series, SOIC-8; ki_keywords: single opamp; ki_fp_filters: SOIC*3.9x4.9mm*P1.27mm*; Footprint: Package_SO:SOIC-8_3.9x4.9mm_P1.27mm; Datasheet: http://www.ti.com/lit/ds/symlink/opa376.pdf; Description_: Single Low-Noise, Low Quiescent Current, Precision Operational Amplifier e-trim Series, SOIC-8
pins: 1 NC, 2 -, 3 +, 4 V-, 5 NC, 6, 7 V+, 8 NC

## OPA376xxDBV
designator *  value OPA376xxDBV  Reference: U
Single Low-Noise, Low Quiescent Current, Precision Operational Amplifier e-trim Series, SOT-23-5; ki_keywords: single opamp; ki_fp_filters: SOT?23*; Footprint: Package_TO_SOT_SMD:SOT-23-5; Datasheet: http://www.ti.com/lit/ds/symlink/opa376.pdf; Description_: Single Low-Noise, Low Quiescent Current, Precision Operational Amplifier e-trim Series, SOT-23-5
pins: 1, 2 V-, 3 +, 4 -, 5 V+

## OPA376xxDCK
designator *  value OPA376xxDCK  Reference: U
Single Low-Noise, Low Quiescent Current, Precision Operational Amplifier e-trim Series, SC-70-5; ki_keywords: single opamp; ki_fp_filters: SOT?23* *SC*70*; Datasheet: http://www.ti.com/lit/ds/symlink/opa376.pdf; Description_: Single Low-Noise, Low Quiescent Current, Precision Operational Amplifier e-trim Series, SC-70-5
pins: 1 +, 2 V-, 3 -, 4, 5 V+

## OPA551P
designator *  value OPA551P  Reference: U
High-Voltage High-Current Operational Amplifier, bandwidth 3MHz, slew-rate 15V/us, DIP-8; ki_keywords: single opamp; ki_fp_filters: DIP*W7.62mm*; Footprint: Package_DIP:DIP-8_W7.62mm; Datasheet: http://www.ti.com/lit/ds/symlink/opa551.pdf; Description_: High-Voltage High-Current Operational Amplifier, bandwidth 3MHz, slew-rate 15V/us, DIP-8
pins: 1 NC, 2 -, 3 +, 4 V-, 5 NC, 6, 7 V+, 8 Flag

## OPA551U
designator *  value OPA551U  Reference: U
High-Voltage High-Current Operational Amplifier, bandwidth 3MHz, slew-rate 15V/us, SOIC-8; ki_keywords: single opamp; ki_fp_filters: SOIC*3.9x4.9mm*P1.27mm*; Footprint: Package_SO:SOIC-8_3.9x4.9mm_P1.27mm; Datasheet: http://www.ti.com/lit/ds/symlink/opa551.pdf; Description_: High-Voltage High-Current Operational Amplifier, bandwidth 3MHz, slew-rate 15V/us, SOIC-8
pins: 1 V-, 2 -, 3 +, 4 V-, 5 V-, 6, 7 V+, 8 Flag

## OPA552P
designator *  value OPA552P  Reference: U
High-Voltage High-Current Operational Amplifier, bandwidth 12MHz, slew-rate 24V/us, DIP-8; ki_keywords: single opamp; ki_fp_filters: DIP*W7.62mm*; Footprint: Package_DIP:DIP-8_W7.62mm; Datasheet: http://www.ti.com/lit/ds/symlink/opa552.pdf; Description_: High-Voltage High-Current Operational Amplifier, bandwidth 12MHz, slew-rate 24V/us, DIP-8
pins: 1 NC, 2 -, 3 +, 4 V-, 5 NC, 6, 7 V+, 8 Flag

## OPA552U
designator *  value OPA552U  Reference: U
High-Voltage High-Current Operational Amplifier, bandwidth 12MHz, slew-rate 24V/us, SOIC-8; ki_keywords: single opamp; ki_fp_filters: SOIC*3.9x4.9mm*P1.27mm*; Footprint: Package_SO:SOIC-8_3.9x4.9mm_P1.27mm; Datasheet: http://www.ti.com/lit/ds/symlink/opa552.pdf; Description_: High-Voltage High-Current Operational Amplifier, bandwidth 12MHz, slew-rate 24V/us, SOIC-8
pins: 1 V-, 2 -, 3 +, 4 V-, 5 V-, 6, 7 V+, 8 Flag

## OPA569DWP
designator *  value OPA569DWP  Reference: U
Rail-to-Rail I/O, 2A, Power Amplifier, SO-20; ki_keywords: opamp single high current; ki_fp_filters: SO*1EP*7.52x12.825mm*P1.27mm*; Footprint: Package_SO:SO-20-1EP_7.52x12.825mm_P1.27mm_EP6.045x12.09mm_Mask3.56x4.47mm; Datasheet: http://www.ti.com/lit/ds/symlink/opa569.pdf; Description_: Rail-to-Rail I/O, 2A, Power Amplifier, SO-20
pins: 1 PAD, 2 POUT1, 3 ISET, 4 ~{{IFLAG}}, 5 -IN, 6 +IN, 7 ~{{TFLAG}}, 8 ENA, 9 POUT2, 10 PAD, 11 PAD, 12 V+, 13 V+, 14 OUT, 15 OUT, 16 NC, 17 V-, 18 V-, 19 IMON, 20 PAD, 21 PAD

## OPA690xD
designator *  value OPA690xD  Reference: U
Single Low-Power, 500 MHz GBW, ±2.5V to ±5V Dual Supply, 5V to 12V Single Supply, 190mA output current, 1.8kV/us slew rate, Voltage-Feedback Operational Amplifier with Disable, SO-8; ki_keywords: opamp texas; ki_fp_filters: SOIC*3.9x4.9mm*P1.27mm*; Footprint: Package_SO:SOIC-8_3.9x4.9mm_P1.27mm; Datasheet: https://www.ti.com/lit/ds/symlink/opa690.pdf; Description_: Single Low-Power, 500 MHz GBW, ±2.5V to ±5V Dual Supply, 5V to 12V Single Supply, 190mA output current, 1.8kV/us slew rate, Voltage-Feedback Operational Amplifier with Disable, SO-8
pins: 1 NC, 2 -, 3 +, 4 V-, 5 NC, 6, 7 V+, 8 ~{{DIS}}

## OPA690xDBV
designator *  value OPA690xDBV  Reference: U
Single Low-Power, 500 MHz GBW, ±2.5V to ±5V Dual Supply, 5V to 12V Single Supply, 190mA output current, 1.8kV/us slew rate, Voltage-Feedback Operational Amplifier with Disable, SOT-23-6; ki_keywords: opamp texas; ki_fp_filters: SOT?23*; Footprint: Package_TO_SOT_SMD:SOT-23-6; Datasheet: https://www.ti.com/lit/ds/symlink/opa690.pdf; Description_: Single Low-Power, 500 MHz GBW, ±2.5V to ±5V Dual Supply, 5V to 12V Single Supply, 190mA output current, 1.8kV/us slew rate, Voltage-Feedback Operational Amplifier with Disable, SOT-23-6
pins: 1, 2 V-, 3 +, 4 -, 5 ~{{DIS}}, 6 V+

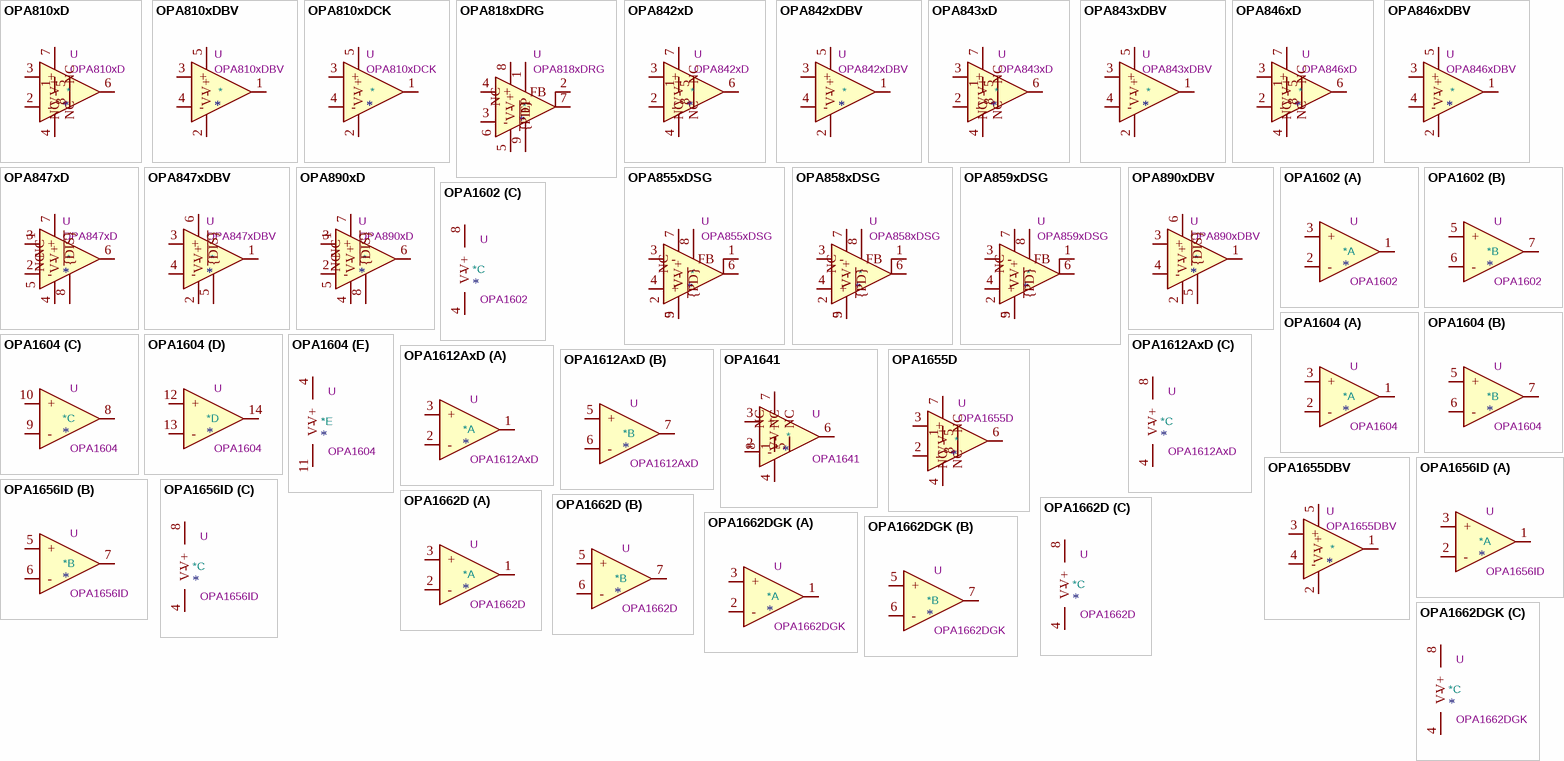
[diagram p14: symbols OPA810xD to OPA1662DGK]

## OPA810xD
designator *  value OPA810xD  Reference: U
140-MHz, Rail-to-Rail Input and Output, FET-Input Operational Amplifier, SOIC-8; ki_keywords: single opamp; ki_fp_filters: SOIC*3.9x4.9mm*P1.27mm*; Footprint: Package_SO:SOIC-8_3.9x4.9mm_P1.27mm; Datasheet: https://www.ti.com/lit/ds/symlink/opa810.pdf; Description_: 140-MHz, Rail-to-Rail Input and Output, FET-Input Operational Amplifier, SOIC-8
pins: 1 NC, 2 -, 3 +, 4 V-, 5 NC, 6, 7 V+, 8 NC

## OPA810xDBV
designator *  value OPA810xDBV  Reference: U
140-MHz, Rail-to-Rail Input and Output, FET-Input Operational Amplifier, SOT-23-5; ki_keywords: single opamp; ki_fp_filters: SOT?23*; Footprint: Package_TO_SOT_SMD:SOT-23-5; Datasheet: https://www.ti.com/lit/ds/symlink/opa810.pdf; Description_: 140-MHz, Rail-to-Rail Input and Output, FET-Input Operational Amplifier, SOT-23-5
pins: 1, 2 V-, 3 +, 4 -, 5 V+

## OPA810xDCK
designator *  value OPA810xDCK  Reference: U
140-MHz, Rail-to-Rail Input and Output, FET-Input Operational Amplifier, SC-70-5; ki_keywords: single opamp; ki_fp_filters: Texas?R?PDSO?G5?DCK*; Footprint: Package_TO_SOT_SMD:Texas_R-PDSO-G5_DCK-5; Datasheet: https://www.ti.com/lit/ds/symlink/opa810.pdf; Description_: 140-MHz, Rail-to-Rail Input and Output, FET-Input Operational Amplifier, SC-70-5
pins: 1, 2 V-, 3 +, 4 -, 5 V+

## OPA818xDRG
designator *  value OPA818xDRG  Reference: U
2.7 GHz, High-Voltage, FET-Input, Low Noise, Operational Amplifier, WSON-8; ki_keywords: opamp VFA; ki_fp_filters: WSON*1EP*3x3mm*EP1.45x2.4mm*; Footprint: Package_SON:WSON-8-1EP_3x3mm_P0.5mm_EP1.45x2.4mm; Datasheet: https://www.ti.com/lit/ds/symlink/opa818.pdf; Description_: 2.7 GHz, High-Voltage, FET-Input, Low Noise, Operational Amplifier, WSON-8
pins: 1 ~{{PD}}, 2 FB, 3 -, 4 +, 5 V-, 6 NC, 7, 8 V+, 9 EP

## OPA842xD
designator *  value OPA842xD  Reference: U
200MHz, Low Distortion, Unity-Gain Stable, Voltage Feedback Operational Amplifier, SOIC-8; ki_keywords: single opamp; ki_fp_filters: SOIC*3.9x4.9mm*P1.27mm*; Footprint: Package_SO:SOIC-8_3.9x4.9mm_P1.27mm; Datasheet: http://www.ti.com/lit/ds/symlink/opa842.pdf; Description_: 200MHz, Low Distortion, Unity-Gain Stable, Voltage Feedback Operational Amplifier, SOIC-8
pins: 1 NC, 2 -, 3 +, 4 V-, 5 NC, 6, 7 V+, 8 NC

## OPA842xDBV
designator *  value OPA842xDBV  Reference: U
200MHz, Low Distortion, Unity-Gain Stable, Voltage Feedback Operational Amplifier, SOT23-5; ki_keywords: single opamp; ki_fp_filters: SOT?23*; Footprint: Package_TO_SOT_SMD:SOT-23-5; Datasheet: http://www.ti.com/lit/ds/symlink/opa842.pdf; Description_: 200MHz, Low Distortion, Unity-Gain Stable, Voltage Feedback Operational Amplifier, SOT23-5
pins: 1, 2 V-, 3 +, 4 -, 5 V+

## OPA843xD
designator *  value OPA843xD  Reference: U
800MHz, Wideband, Low Distortion, Medium Gain, Voltage-Feedback Operational Amplifier, SOIC-8; ki_keywords: single opamp low distortion; ki_fp_filters: SOIC*3.9x4.9mm*P1.27mm*; Footprint: Package_SO:SOIC-8_3.9x4.9mm_P1.27mm; Datasheet: http://www.ti.com/lit/ds/symlink/opa843.pdf; Description_: 800MHz, Wideband, Low Distortion, Medium Gain, Voltage-Feedback Operational Amplifier, SOIC-8
pins: 1 NC, 2 -, 3 +, 4 V-, 5 NC, 6, 7 V+, 8 NC

## OPA843xDBV
designator *  value OPA843xDBV  Reference: U
800MHz, Wideband, Low Distortion, Medium Gain, Voltage-Feedback Operational Amplifier, SOT-23-5; ki_keywords: single opamp low distortion; ki_fp_filters: SOT?23*; Footprint: Package_TO_SOT_SMD:SOT-23-5; Datasheet: http://www.ti.com/lit/ds/symlink/opa843.pdf; Description_: 800MHz, Wideband, Low Distortion, Medium Gain, Voltage-Feedback Operational Amplifier, SOT-23-5
pins: 1, 2 V-, 3 +, 4 -, 5 V+

## OPA846xD
designator *  value OPA846xD  Reference: U
1750MHz, Wideband, Low-Noise, Voltage Feedback Operational Amplifier, SOIC-8; ki_keywords: single opamp; ki_fp_filters: SOIC*3.9x4.9mm*P1.27mm*; Footprint: Package_SO:SOIC-8_3.9x4.9mm_P1.27mm; Datasheet: http://www.ti.com/lit/ds/symlink/opa846.pdf; Description_: 1750MHz, Wideband, Low-Noise, Voltage Feedback Operational Amplifier, SOIC-8
pins: 1 NC, 2 -, 3 +, 4 V-, 5 NC, 6, 7 V+, 8 NC

## OPA846xDBV
designator *  value OPA846xDBV  Reference: U
1750MHz, Wideband, Low-Noise, Voltage Feedback Operational Amplifier, SOT23-5; ki_keywords: single opamp; ki_fp_filters: SOT?23*; Footprint: Package_TO_SOT_SMD:SOT-23-5; Datasheet: http://www.ti.com/lit/ds/symlink/opa846.pdf; Description_: 1750MHz, Wideband, Low-Noise, Voltage Feedback Operational Amplifier, SOT23-5
pins: 1, 2 V-, 3 +, 4 -, 5 V+

## OPA847xD
designator *  value OPA847xD  Reference: U
Single Low-Power, 3.9GHz, Wideband, Ultra-Low Noise, Voltage-Feedback Operational Amplifier with Disable, SO-8; ki_keywords: single opamp wideband low-power; ki_fp_filters: SOIC*3.9x4.9mm*P1.27mm*; Footprint: Package_SO:SOIC-8_3.9x4.9mm_P1.27mm; Datasheet: http://www.ti.com/lit/ds/symlink/opa847.pdf; Description_: Single Low-Power, 3.9GHz, Wideband, Ultra-Low Noise, Voltage-Feedback Operational Amplifier with Disable, SO-8
pins: 1 NC, 2 -, 3 +, 4 V-, 5 NC, 6, 7 V+, 8 ~{{DIS}}

## OPA847xDBV
designator *  value OPA847xDBV  Reference: U
Single Low-Power, 3.9GHz, Wideband, Ultra-Low Noise, Voltage-Feedback Operational Amplifier with Disable, SOT-23-6; ki_keywords: single opamp wideband low-power; ki_fp_filters: SOT?23*; Footprint: Package_TO_SOT_SMD:SOT-23-6; Datasheet: http://www.ti.com/lit/ds/symlink/opa847.pdf; Description_: Single Low-Power, 3.9GHz, Wideband, Ultra-Low Noise, Voltage-Feedback Operational Amplifier with Disable, SOT-23-6
pins: 1, 2 V-, 3 +, 4 -, 5 ~{{DIS}}, 6 V+

## OPA855xDSG
designator *  value OPA855xDSG  Reference: U
8-GHz Gain Bandwidth Product, Gain of 7-V/V Stable, Bipolar Input Amplifier, WSON-8; ki_keywords: opamp VFA; ki_fp_filters: WSON*1EP*2x2mm*P0.5mm*; Footprint: Package_SON:WSON-8-1EP_2x2mm_P0.5mm_EP0.9x1.6mm; Datasheet: http://www.ti.com/lit/ds/symlink/opa855.pdf; Description_: 8-GHz Gain Bandwidth Product, Gain of 7-V/V Stable, Bipolar Input Amplifier, WSON-8
pins: 1 FB, 2 NC, 3 -, 4 +, 5 V-, 6, 7 V+, 8 ~{{PD}}, 9 V-

## OPA858xDSG
designator *  value OPA858xDSG  Reference: U
5.5-GHz Gain Bandwidth Product, Gain of 7 V/V Stable, FET Input Amplifier, WSON-8; ki_keywords: opamp VFA; ki_fp_filters: WSON*1EP*2x2mm*P0.5mm*; Footprint: Package_SON:WSON-8-1EP_2x2mm_P0.5mm_EP0.9x1.6mm; Datasheet: http://www.ti.com/lit/ds/symlink/opa858.pdf; Description_: 5.5-GHz Gain Bandwidth Product, Gain of 7 V/V Stable, FET Input Amplifier, WSON-8
pins: 1 FB, 2 NC, 3 -, 4 +, 5 V-, 6, 7 V+, 8 ~{{PD}}, 9 V-

## OPA859xDSG
designator *  value OPA859xDSG  Reference: U
1.8 GHz Unity-Gain Bandwidth FET Input Amplifier, WSON-8; ki_keywords: opamp VFA; ki_fp_filters: WSON*1EP*2x2mm*P0.5mm*; Footprint: Package_SON:WSON-8-1EP_2x2mm_P0.5mm_EP0.9x1.6mm; Datasheet: http://www.ti.com/lit/ds/symlink/opa859.pdf; Description_: 1.8 GHz Unity-Gain Bandwidth FET Input Amplifier, WSON-8
pins: 1 FB, 2 NC, 3 -, 4 +, 5 V-, 6, 7 V+, 8 ~{{PD}}, 9 V-

## OPA890xD
designator *  value OPA890xD  Reference: U
Single Low-Power, Wideband, Voltage-Feedback Operational Amplifier with Disable, SO-8; ki_keywords: single opamp wideband low-power; ki_fp_filters: SOIC*3.9x4.9mm*P1.27mm*; Footprint: Package_SO:SOIC-8_3.9x4.9mm_P1.27mm; Datasheet: https://www.ti.com/lit/ds/symlink/opa890.pdf; Description_: Single Low-Power, Wideband, Voltage-Feedback Operational Amplifier with Disable, SO-8
pins: 1 NC, 2 -, 3 +, 4 V-, 5 NC, 6, 7 V+, 8 ~{{DIS}}

## OPA890xDBV
designator *  value OPA890xDBV  Reference: U
Single Low-Power, Wideband, Voltage-Feedback Operational Amplifier with Disable, SOT-23-6; ki_keywords: single opamp wideband low-power; ki_fp_filters: SOT?23*; Footprint: Package_TO_SOT_SMD:SOT-23-6; Datasheet: https://www.ti.com/lit/ds/symlink/opa890.pdf; Description_: Single Low-Power, Wideband, Voltage-Feedback Operational Amplifier with Disable, SOT-23-6
pins: 1, 2 V-, 3 +, 4 -, 5 ~{{DIS}}, 6 V+

## OPA1602
designator *  value OPA1602  Reference: U
Dual SoundPlus High Performance, Bipolar-Input Audio Operational Amplifiers, SOIC-8/MSOP-8; ki_keywords: dual opamp; ki_fp_filters: SOIC*3.9x4.9mm*P1.27mm* DIP*W7.62mm* TO*99* OnSemi*Micro8* TSSOP*3x3mm*P0.65mm* TSSOP*4.4x3mm*P0.65mm* MSOP*3x3mm*P0.65mm* SSOP*3.9x4.9mm*P0.635mm* LFCSP*2x2mm*P0.5mm* *SIP* SOIC*5.3x6.2mm*P1.27mm*; Datasheet: http://www.ti.com/lit/ds/symlink/opa1604.pdf; Description_: Dual SoundPlus High Performance, Bipolar-Input Audio Operational Amplifiers, SOIC-8/MSOP-8
part A pins: 1, 2 -, 3 +
part B pins: 5 +, 6 -, 7
part C pins: 4 V-, 8 V+

## OPA1604
designator *  value OPA1604  Reference: U
Quad SoundPlus High Performance, Bipolar-Input Audio Operational Amplifiers, SOIC-14/TSSOP-14; ki_keywords: quad opamp; ki_fp_filters: SOIC*3.9x8.7mm*P1.27mm* DIP*W7.62mm* TSSOP*4.4x5mm*P0.65mm* SSOP*5.3x6.2mm*P0.65mm* MSOP*3x3mm*P0.5mm*; Datasheet: http://www.ti.com/lit/ds/symlink/opa1604.pdf; Description_: Quad SoundPlus High Performance, Bipolar-Input Audio Operational Amplifiers, SOIC-14/TSSOP-14
part A pins: 1, 2 -, 3 +
part B pins: 5 +, 6 -, 7
part C pins: 8, 9 -, 10 +
part D pins: 12 +, 13 -, 14
part E pins: 4 V+, 11 V-

## OPA1612AxD
designator *  value OPA1612AxD  Reference: U
Dual SoundPlus High Performance, Bipolar-Input Audio Operational Amplifiers, SOIC-8; ki_keywords: dual opamp; ki_fp_filters: SOIC*3.9x4.9mm*P1.27mm* DIP*W7.62mm* TO*99* OnSemi*Micro8* TSSOP*3x3mm*P0.65mm* TSSOP*4.4x3mm*P0.65mm* MSOP*3x3mm*P0.65mm* SSOP*3.9x4.9mm*P0.635mm* LFCSP*2x2mm*P0.5mm* *SIP* SOIC*5.3x6.2mm*P1.27mm*; Datasheet: http://www.ti.com/lit/ds/symlink/opa1612.pdf; Description_: Dual SoundPlus High Performance, Bipolar-Input Audio Operational Amplifiers, SOIC-8
part A pins: 1, 2 -, 3 +
part B pins: 5 +, 6 -, 7
part C pins: 4 V-, 8 V+

## OPA1641
designator *  value OPA1641  Reference: U
JFET input, ultralow distortion, low-noise operational amplifier, SOIC-8/VSSOP-8; ki_keywords: single opamp; ki_fp_filters: SOIC*3.9x4.9mm*P1.27mm* VSSOP*3x3mm*P0.65mm*; Datasheet: http://www.ti.com/lit/ds/symlink/opa1641.pdf; Description_: JFET input, ultralow distortion, low-noise operational amplifier, SOIC-8/VSSOP-8
pins: 1 NC, 2 -, 3 +, 4 V-, 5 NC, 6, 7 V+, 8 NC

## OPA1655D
designator *  value OPA1655D  Reference: U
Single Ultra-Low-Noise, Low-Distortion, FET-Input, Burr-Brown Audio Operational Amplifiers, SOIC-8; ki_keywords: single opamp; ki_fp_filters: SOIC*3.9x4.9mm*P1.27mm*; Footprint: Package_SO:SOIC-8_3.9x4.9mm_P1.27mm; Datasheet: https://www.ti.com/lit/ds/symlink/opa1655.pdf; Description_: Single Ultra-Low-Noise, Low-Distortion, FET-Input, Burr-Brown Audio Operational Amplifiers, SOIC-8
pins: 1 NC, 2 -, 3 +, 4 V-, 5 NC, 6, 7 V+, 8 NC

## OPA1655DBV
designator *  value OPA1655DBV  Reference: U
Single Ultra-Low-Noise, Low-Distortion, FET-Input, Burr-Brown Audio Operational Amplifiers, SOT-23-5; ki_keywords: single opamp; ki_fp_filters: SOT?23*; Footprint: Package_TO_SOT_SMD:SOT-23-5; Datasheet: https://www.ti.com/lit/ds/symlink/opa1655.pdf; Description_: Single Ultra-Low-Noise, Low-Distortion, FET-Input, Burr-Brown Audio Operational Amplifiers, SOT-23-5
pins: 1, 2 V-, 3 +, 4 -, 5 V+

## OPA1656ID
designator *  value OPA1656ID  Reference: U
Dual Ultra-Low-Noise, Low-Distortion, FET-Input, Burr-Brown Audio Operational Amplifiers, SOIC-8; ki_keywords: dual opamp; ki_fp_filters: SOIC*3.9x4.9mm*P1.27mm*; Footprint: Package_SO:SOIC-8_3.9x4.9mm_P1.27mm; Datasheet: https://www.ti.com/lit/ds/symlink/opa1656.pdf; Description_: Dual Ultra-Low-Noise, Low-Distortion, FET-Input, Burr-Brown Audio Operational Amplifiers, SOIC-8
part A pins: 1, 2 -, 3 +
part B pins: 5 +, 6 -, 7
part C pins: 4 V-, 8 V+

## OPA1662D
designator *  value OPA1662D  Reference: U
Dual Low-Power, Low-Noise, Low-Distortion, Bipolar-Input SoundPlus Audio Operational Amplifiers, SOIC-8; ki_keywords: dual opamp operational-amplifier; ki_fp_filters: SOIC*3.9x4.9mm*P1.27mm*; Footprint: Package_SO:SOIC-8_3.9x4.9mm_P1.27mm; Datasheet: https://www.ti.com/lit/ds/symlink/opa1662.pdf; Description_: Dual Low-Power, Low-Noise, Low-Distortion, Bipolar-Input SoundPlus Audio Operational Amplifiers, SOIC-8
part A pins: 1, 2 -, 3 +
part B pins: 5 +, 6 -, 7
part C pins: 4 V-, 8 V+

## OPA1662DGK
designator *  value OPA1662DGK  Reference: U
Dual Low-Power, Low-Noise, Low-Distortion, Bipolar-Input SoundPlus Audio Operational Amplifiers, VSSOP-8; ki_keywords: dual opamp operational-amplifier; ki_fp_filters: VSSOP*3x3mm*P0.65mm*; Footprint: Package_SO:VSSOP-8_3x3mm_P0.65mm; Datasheet: https://www.ti.com/lit/ds/symlink/opa1662.pdf; Description_: Dual Low-Power, Low-Noise, Low-Distortion, Bipolar-Input SoundPlus Audio Operational Amplifiers, VSSOP-8
part A pins: 1, 2 -, 3 +
part B pins: 5 +, 6 -, 7
part C pins: 4 V-, 8 V+

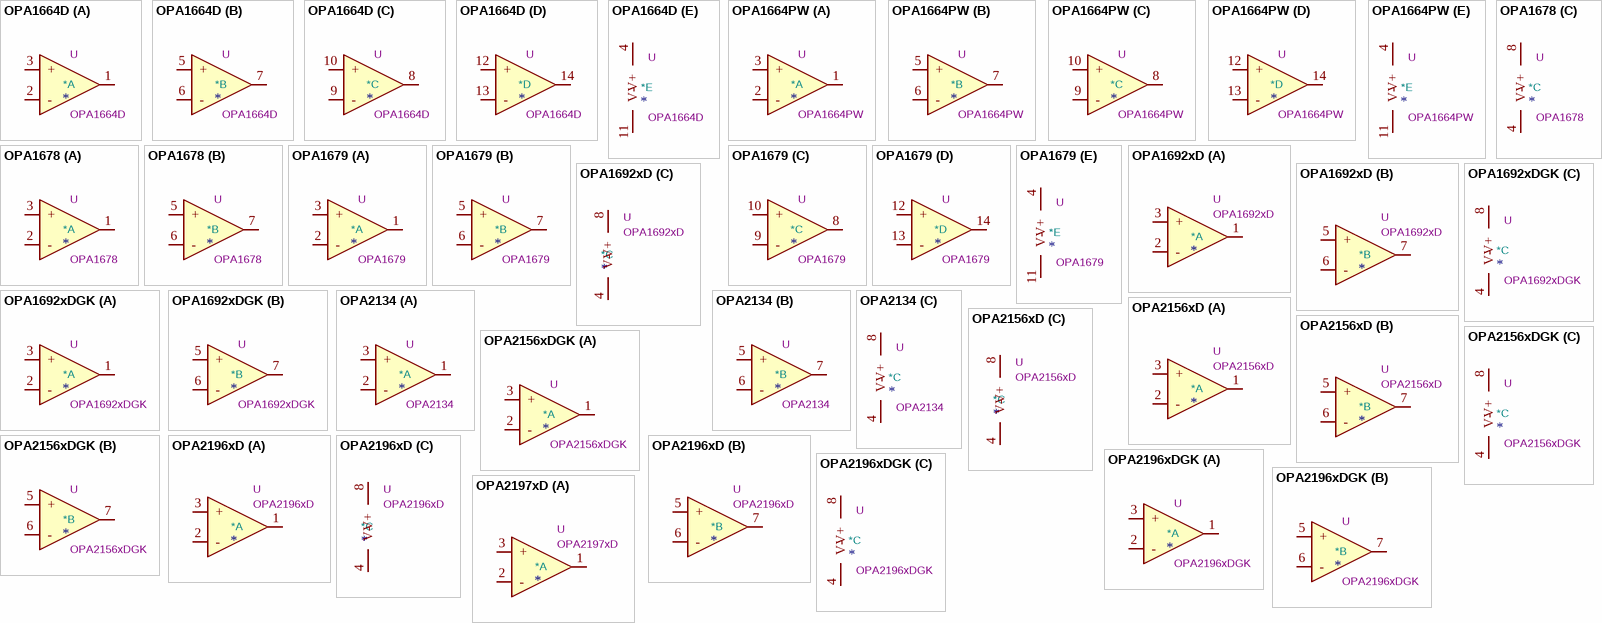
[diagram p15: symbols OPA1664D to OPA2197xD]

## OPA1664D
designator *  value OPA1664D  Reference: U
Quad Low-Power, Low-Noise, Low-Distortion, Bipolar-Input SoundPlus Audio Operational Amplifiers, SOIC-14; ki_keywords: quad opamp operational-amplifier; ki_fp_filters: SOIC*3.9x8.7mm*P1.27mm*; Footprint: Package_SO:SOIC-14_3.9x8.7mm_P1.27mm; Datasheet: https://www.ti.com/lit/ds/symlink/opa1664.pdf; Description_: Quad Low-Power, Low-Noise, Low-Distortion, Bipolar-Input SoundPlus Audio Operational Amplifiers, SOIC-14
part A pins: 1, 2 -, 3 +
part B pins: 5 +, 6 -, 7
part C pins: 8, 9 -, 10 +
part D pins: 12 +, 13 -, 14
part E pins: 4 V+, 11 V-

## OPA1664PW
designator *  value OPA1664PW  Reference: U
Quad Low-Power, Low-Noise, Low-Distortion, Bipolar-Input SoundPlus Audio Operational Amplifiers, TSSOP-14; ki_keywords: quad opamp operational-amplifier; ki_fp_filters: TSSOP*4.4x5mm*P0.65mm*; Footprint: Package_SO:TSSOP-14_4.4x5mm_P0.65mm; Datasheet: https://www.ti.com/lit/ds/symlink/opa1664.pdf; Description_: Quad Low-Power, Low-Noise, Low-Distortion, Bipolar-Input SoundPlus Audio Operational Amplifiers, TSSOP-14
part A pins: 1, 2 -, 3 +
part B pins: 5 +, 6 -, 7
part C pins: 8, 9 -, 10 +
part D pins: 12 +, 13 -, 14
part E pins: 4 V+, 11 V-

## OPA1678
designator *  value OPA1678  Reference: U
Low-Distortion Audio Operational Amplifiers, SOIC-8/VSSOP-8; ki_keywords: dual opamp; ki_fp_filters: SOIC*3.9x4.9mm*P1.27mm* DIP*W7.62mm* TO*99* OnSemi*Micro8* TSSOP*3x3mm*P0.65mm* TSSOP*4.4x3mm*P0.65mm* MSOP*3x3mm*P0.65mm* SSOP*3.9x4.9mm*P0.635mm* LFCSP*2x2mm*P0.5mm* *SIP* SOIC*5.3x6.2mm*P1.27mm*; Datasheet: http://www.ti.com/lit/ds/symlink/opa1678.pdf; Description_: Low-Distortion Audio Operational Amplifiers, SOIC-8/VSSOP-8
part A pins: 1, 2 -, 3 +
part B pins: 5 +, 6 -, 7
part C pins: 4 V-, 8 V+

## OPA1679
designator *  value OPA1679  Reference: U
Low-Distortion Audio Operational Amplifiers, SOIC-14/TSSOP-14; ki_keywords: quad opamp; ki_fp_filters: SOIC*3.9x8.7mm*P1.27mm* DIP*W7.62mm* TSSOP*4.4x5mm*P0.65mm* SSOP*5.3x6.2mm*P0.65mm* MSOP*3x3mm*P0.5mm*; Datasheet: http://www.ti.com/lit/ds/symlink/opa1678.pdf; Description_: Low-Distortion Audio Operational Amplifiers, SOIC-14/TSSOP-14
part A pins: 1, 2 -, 3 +
part B pins: 5 +, 6 -, 7
part C pins: 8, 9 -, 10 +
part D pins: 12 +, 13 -, 14
part E pins: 4 V+, 11 V-

## OPA1692xD
designator *  value OPA1692xD  Reference: U
Dual SoundPlus Low Power, Low Noise & Low Distortion Audio Operational Amplifiers, SOIC-8; ki_keywords: VFA opamp; ki_fp_filters: SOIC*3.9x4.9mm*P1.27mm*; Footprint: Package_SO:SOIC-8_3.9x4.9mm_P1.27mm; Datasheet: https://www.ti.com/lit/ds/symlink/opa1692.pdf; Description_: Dual SoundPlus Low Power, Low Noise & Low Distortion Audio Operational Amplifiers, SOIC-8
part A pins: 1, 2 -, 3 +
part B pins: 5 +, 6 -, 7
part C pins: 4 V-, 8 V+

## OPA1692xDGK
designator *  value OPA1692xDGK  Reference: U
Dual SoundPlus Low Power, Low Noise & Low Distortion Audio Operational Amplifiers, VSSOP-8; ki_keywords: VFA opamp; ki_fp_filters: VSSOP*3x3mm*P0.65mm*; Footprint: Package_SO:VSSOP-8_3x3mm_P0.65mm; Datasheet: https://www.ti.com/lit/ds/symlink/opa1692.pdf; Description_: Dual SoundPlus Low Power, Low Noise & Low Distortion Audio Operational Amplifiers, VSSOP-8
part A pins: 1, 2 -, 3 +
part B pins: 5 +, 6 -, 7
part C pins: 4 V-, 8 V+

## OPA2134
designator *  value OPA2134  Reference: U
Dual SoundPlus High Performance Audio Operational Amplifiers, DIP-8/SOIC-8; ki_keywords: dual opamp; ki_fp_filters: SOIC*3.9x4.9mm*P1.27mm* DIP*W7.62mm* TO*99* OnSemi*Micro8* TSSOP*3x3mm*P0.65mm* TSSOP*4.4x3mm*P0.65mm* MSOP*3x3mm*P0.65mm* SSOP*3.9x4.9mm*P0.635mm* LFCSP*2x2mm*P0.5mm* *SIP* SOIC*5.3x6.2mm*P1.27mm*; Datasheet: http://www.ti.com/lit/ds/symlink/opa134.pdf; Description_: Dual SoundPlus High Performance Audio Operational Amplifiers, DIP-8/SOIC-8
part A pins: 1, 2 -, 3 +
part B pins: 5 +, 6 -, 7
part C pins: 4 V-, 8 V+